# Altium footprint library LitVP-02.PcbLib: 16 footprints
Each footprint in its own frame and in the unit in brackets; x right, y up, seen from the top. Pads: shape width x height; smd on the part's side, far side on the other; paste and mask are expansions set on the pad; w line width, h text height; cw(c..) or ccw(c..) is an arc to the next point about the centre after c.
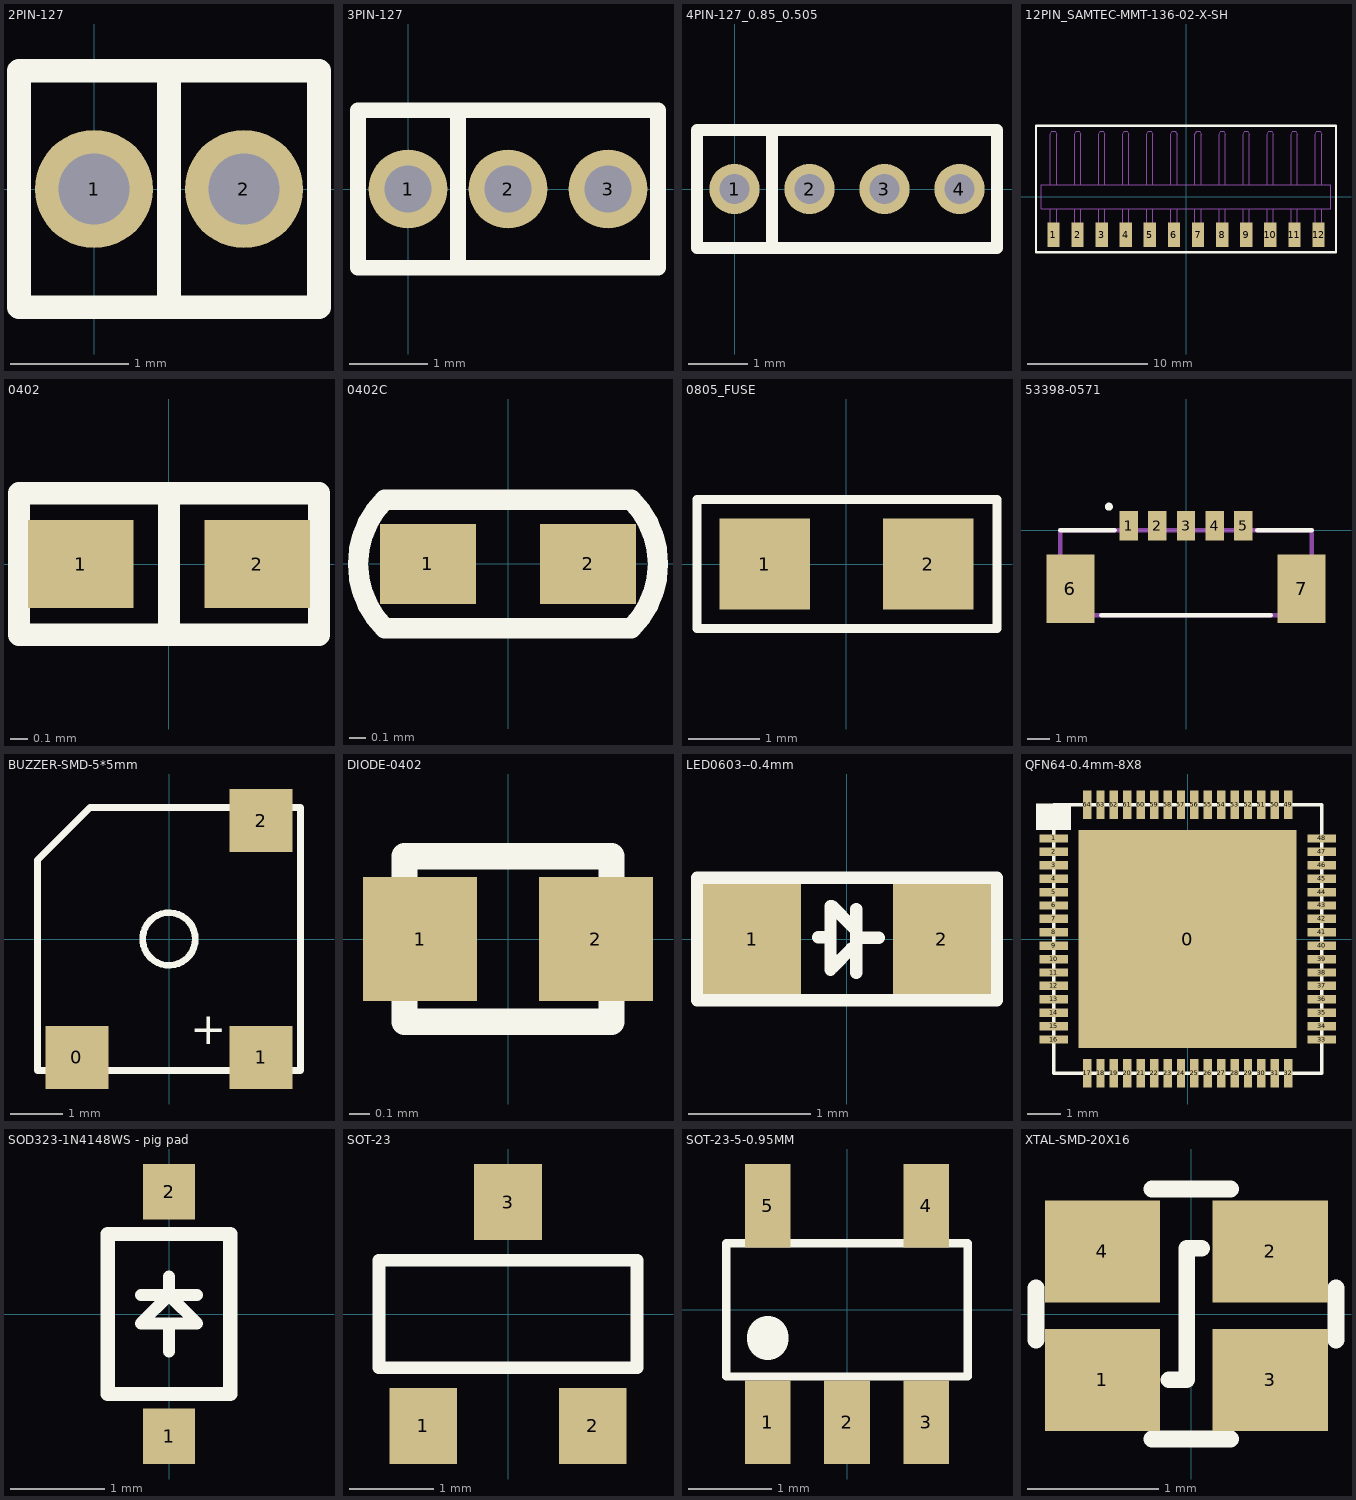
[diagram p0: the footprints below, top view; thin cyan lines are the x and y axes]

## 2PIN-127 [mm]
pads (2):
  round 1 hole 0.6: 1(0,0) 2(1.27,0)
Top Overlay:
  lines w0.2: 0.635,-1 0.635,1 ; -0.635,-1 1.905,-1 1.905,1 -0.635,1 -0.635,-1

## 3PIN-127 [mm]
pads (3):
  round 1 hole 0.6: 1(0,0) 2(1.27,0) 3(2.54,0)
Top Overlay:
  lines w0.2: 0.635,-1 0.635,1 ; -0.635,-1 -0.635,1 3.175,1 3.175,-1 -0.635,-1
3D body "BD022-02-A-A-0210-0210-L-D.stp": height 3.6, standoff -2.1, extent 0.635,-1.25 3.175,1.25
3D body "BD022-02-A-A-0210-0210-L-D.stp": height 3.6, standoff -2.1, extent -0.635,-1.25 1.905,1.25

## 4PIN-127_0.85_0.505 [mm]
pads (4):
  round 0.85 hole 0.505: 1(0,0) 2(1.27,0) 3(2.54,0) 4(3.81,0)
Top Overlay:
  lines w0.2: 0.635,-1 0.635,1 ; -0.635,-1 -0.635,1 4.445,1 4.445,-1 -0.635,-1
3D body "BD022-02-A-A-0210-0210-L-D.stp": height 3.6, standoff -2.1, extent -0.635,-1.25 1.905,1.25
3D body "BD022-02-A-A-0210-0210-L-D.stp": height 3.6, standoff -2.1, extent 1.905,-1.25 4.445,1.25

## 12PIN_SAMTEC-MMT-136-02-X-SH [mm]
pads (12):
  rect 1.02x2.03 smd: 1(-11,-3.159) 2(-9,-3.159) 3(-7,-3.159) 4(-5,-3.159) 5(-3,-3.159) 6(-1,-3.159) 7(1,-3.159) 8(3,-3.159) 9(5,-3.159) 10(7,-3.159) 11(9,-3.159) 12(11,-3.159)
Top Overlay:
  lines w0.2: -12.45,-4.625 12.45,-4.625 12.45,5.895 -12.45,5.895 -12.45,-4.625
Top Paste:
  rectangle: 10.49,-4.174 11.51,-2.144
  rectangle: 8.49,-4.174 9.51,-2.144
  rectangle: 6.49,-4.174 7.51,-2.144
  rectangle: 4.49,-4.174 5.51,-2.144
  rectangle: 2.49,-4.174 3.51,-2.144
  rectangle: 0.491,-4.174 1.511,-2.144
  rectangle: -1.509,-4.174 -0.489,-2.144
  rectangle: -3.51,-4.174 -2.49,-2.144
  rectangle: -5.51,-4.174 -4.49,-2.144
  rectangle: -7.51,-4.174 -6.49,-2.144
  rectangle: -9.51,-4.174 -8.49,-2.144
  rectangle: -11.51,-4.174 -10.49,-2.144
Top Solder:
  rectangle: 10.439,-4.225 11.561,-2.093
  rectangle: 8.439,-4.225 9.561,-2.093
  rectangle: 6.439,-4.225 7.561,-2.093
  rectangle: 4.439,-4.225 5.561,-2.093
  rectangle: 2.439,-4.225 3.561,-2.093
  rectangle: 0.44,-4.225 1.562,-2.093
  rectangle: -1.56,-4.225 -0.438,-2.093
  rectangle: -3.561,-4.225 -2.439,-2.093
  rectangle: -5.561,-4.225 -4.439,-2.093
  rectangle: -7.561,-4.225 -6.439,-2.093
  rectangle: -9.561,-4.225 -8.439,-2.093
  rectangle: -11.561,-4.225 -10.439,-2.093
Mechanical 16:
  lines w0.1: -11.254,-1 -11.254,-3.794 -10.746,-3.794 -10.746,-1 ; -11.254,1 -11.254,5.191 -11.127,5.445 -10.873,5.445 -10.746,5.191 -10.746,1 ; -9.254,-1 -9.254,-3.794 -8.746,-3.794 -8.746,-1 ; -9.254,1 -9.254,5.191 -9.127,5.445 -8.873,5.445 -8.746,5.191 -8.746,1 ; -7.254,-1 -7.254,-3.794 -6.746,-3.794 -6.746,-1 ; -7.254,1 -7.254,5.191 -7.127,5.445 -6.873,5.445 -6.746,5.191 -6.746,1 ; -5.254,-1 -5.254,-3.794 -4.746,-3.794 -4.746,-1 ; -5.254,1 -5.254,5.191 -5.127,5.445 -4.873,5.445 -4.746,5.191 -4.746,1 ; -3.254,-1 -3.254,-3.794 -2.746,-3.794 -2.746,-1 ; -3.254,1 -3.254,5.191 -3.127,5.445 -2.873,5.445 -2.746,5.191 -2.746,1 ; -1.254,-1 -1.254,-3.794 -0.746,-3.794 -0.746,-1 ; -1.254,1 -1.254,5.191 -1.127,5.445 -0.873,5.445 -0.746,5.191 -0.746,1 ; 0.746,-1 0.746,-3.794 1.254,-3.794 1.254,-1 ; 0.746,1 0.746,5.191 0.873,5.445 1.127,5.445 1.254,5.191 1.254,1 ; 2.746,-1 2.746,-3.794 3.254,-3.794 3.254,-1 ; 2.746,1 2.746,5.191 2.873,5.445 3.127,5.445 3.254,5.191 3.254,1 ; 4.746,-1 4.746,-3.794 5.254,-3.794 5.254,-1 ; 4.746,1 4.746,5.191 4.873,5.445 5.127,5.445 5.254,5.191 5.254,1 ; 6.746,-1 6.746,-3.794 7.254,-3.794 7.254,-1 ; 6.746,1 6.746,5.191 6.873,5.445 7.127,5.445 7.254,5.191 7.254,1 ; 8.746,-1 8.746,-3.794 9.254,-3.794 9.254,-1 ; 8.746,1 8.746,5.191 8.873,5.445 9.127,5.445 9.254,5.191 9.254,1 ; 10.746,-1 10.746,-3.794 11.254,-3.794 11.254,-1 ; 10.746,1 10.746,5.191 10.873,5.445 11.127,5.445 11.254,5.191 11.254,1 ; 10,-1 12,-1 ; 10,-1 12,-1 ; 10,-1 8,-1 6,-1 4,-1 2,-1 0,-1 -2,-1 -4,-1 -6,-1 -8,-1 -10,-1 -12,-1 -12,1 -10,1 -8,1 -6,1 -4,1 -2,1 0,1 2,1 4,1 6,1 8,1 10,1 ; 10,1 12,1 ; 10,1 12,1 ; 12,-1 12,1
  text "1" at -6.49,-7.862 h0.6
3D body "pin_header_a-sl200-ea-g02mp1.stp": height 2, standoff 0, extent 7.999,-4.019 11.999,4.781
3D body "pin_header_a-sl200-ea-g02mp1.stp": height 2, standoff 0, extent 3.999,-4.019 7.999,4.781
3D body "pin_header_a-sl200-ea-g02mp1.stp": height 2, standoff 0, extent -0.001,-4.019 3.999,4.781
3D body "pin_header_a-sl200-ea-g02mp1.stp": height 2, standoff 0, extent -4.001,-4.019 -0.001,4.781
3D body "pin_header_a-sl200-ea-g02mp1.stp": height 2, standoff 0, extent -8.001,-4.019 -4.001,4.781
3D body "pin_header_a-sl200-ea-g02mp1.stp": height 2, standoff 0, extent -12.001,-4.019 -8.001,4.781

## 0402 [mm]
pads (2):
  rect 0.6x0.5 smd: 1(-0.5,0) 2(0.5,0)
Top Overlay:
  lines w0.127: 0,-0.4 0,0.4 ; -0.85,-0.4 0.85,-0.4 0.85,0.4 -0.85,0.4 -0.85,-0.4
3D body "User Library-d0402h025.STEP": height 0.25, standoff 0, extent -0.5,-0.25 0.5,0.25

## 0402C [mm]
pads (2):
  rect 0.6x0.5 smd: 1(-0.5,0) 2(0.5,0)
Top Overlay:
  lines w0.127: -0.77,-0.4 cw(c-0.37,0) -0.77,0.4 0.77,0.4 cw(c0.37,0) 0.77,-0.4 -0.77,-0.4
3D body "c0402c689c5gactu.stp": height 0.58, standoff 0.03, extent -0.525,-0.275 0.525,0.275

## 0805_FUSE [mil]
pads (2):
  rect 50x50 smd: 1(-45,0) 2(45,0)
Top Overlay:
  lines w5: -82.4,-35.43 -82.4,35.43 82.95,35.43 82.95,-35.43 -82.4,-35.43
3D body "mf-psmf050x-2.stp": height 26.18, standoff 0, extent -42.05,-26.58 42.6,26.57

## 53398-0571 [mm]
pads (7):
  rect 0.8x1.3 smd: 1(-2.5,0.2) 2(-1.25,0.2) 3(0,0.2) 4(1.25,0.2) 5(2.5,0.2)
  rect 2.1x3 smd: 6(-5.05,-2.55) 7(5.05,-2.55)
Top Overlay:
  circle w0.2: c-3.366,1.031 r0.077
  lines w0.2: -5.5,0 -3.122,0 ; -3.7,-3.7 3.7,-3.7 ; 3.111,0 5.5,0
Mechanical 13:
  lines w0.2: -5.5,-3.7 5.5,-3.7 5.5,0 -5.5,0 -5.5,-3.7
3D body "53398-0571.stp": height 4.74, standoff 0, extent -5.7,-3.71 5.7,0.49

## BUZZER-SMD-5*5mm [mm] "BUZZER-SMD-5*5mm"
pads (3):
  rect 1.2x1.2 smd: 0(-1.75,-2.25) 1(1.75,-2.25) 2(1.75,2.25)
Top Overlay:
  circle w0.127: c0,0 r0.5
  lines w0.127: -2.5,-2.5 -2.5,1.5 -1.5,2.5 2.5,2.5 2.5,-2.5 -2.5,-2.5
  text "+" at 0.4,-2 h0.6

## DIODE-0402 [mm] "DIODE-0402"
pads (2):
  rect 0.55x0.6 smd mask+0.05: 1(-0.425,0) 2(0.425,0)
Top Overlay:
  lines w0.127: -0.5,-0.4 0.5,-0.4 0.5,0.4 -0.5,0.4 -0.5,-0.4
3D body "User Library-CDBZ0130L-HF.STEP": height 0.3, standoff -0.01, extent -0.31,-0.16 0.31,0.16

## LED0603--0.4mm [mm] "LED0603--0.4mm"
pads (2):
  rect 0.8x0.9 smd: 1(-0.775,0) 2(0.775,0)
Top Overlay:
  lines w0.1: -0.235,0.015 -0.16,0.015 ; -0.135,-0.251 -0.135,0.269 ; -0.124,0.269 0.045,0.1 ; -0.121,-0.236 0.035,-0.08 ; 0.075,-0.275 0.075,0.245 ; 0.08,0.01 0.26,0.01 ; -1.225,-0.5 1.225,-0.5 1.225,0.5 -1.225,0.5 -1.225,-0.5

## QFN64-0.4mm-8X8 [mm] "QFN64-0.4mm-8X8"
pads (65):
  rect 6.5x6.5 smd: 0(0,0)
  rect 0.85x0.25 smd: 1(-4,3) 2(-4,2.6) 3(-4,2.2) 4(-4,1.8) 5(-4,1.4) 6(-4,1) 7(-4,0.6) 8(-4,0.2) 9(-4,-0.2) 10(-4,-0.6) 11(-4,-1) 12(-4,-1.4) 13(-4,-1.8) 14(-4,-2.2) 15(-4,-2.6) 16(-4,-3) 33(4,-3) 34(4,-2.6) 35(4,-2.2) 36(4,-1.8) 37(4,-1.4) 38(4,-1) 39(4,-0.6) 40(4,-0.2) 41(4,0.2) 42(4,0.6) 43(4,1) 44(4,1.4) 45(4,1.8) 46(4,2.2) 47(4,2.6) 48(4,3)
  rect 0.25x0.85 smd: 17(-3,-4) 18(-2.6,-4) 19(-2.2,-4) 20(-1.8,-4) 21(-1.4,-4) 22(-1,-4) 23(-0.6,-4) 24(-0.2,-4) 25(0.2,-4) 26(0.6,-4) 27(1,-4) 28(1.4,-4) 29(1.8,-4) 30(2.2,-4) 31(2.6,-4) 32(3,-4) 49(3,4) 50(2.6,4) 51(2.2,4) 52(1.8,4) 53(1.4,4) 54(1,4) 55(0.6,4) 56(0.2,4) 57(-0.2,4) 58(-0.6,4) 59(-1,4) 60(-1.4,4) 61(-1.8,4) 62(-2.2,4) 63(-2.6,4) 64(-3,4)
Top Overlay:
  rectangle: -4.525,3.25 -3.475,4.05
  lines w0.1: -4,-4 -4,4 4,4 4,-4 -4,-4
3D body "User Library-QFN64_8x8.sldprt": height 0.81, standoff 0, extent -4,-4 4,4

## SOD323-1N4148WS - pig pad [mm] "SOD323-1N4148WS"
pads (2):
  rect 0.55x0.59 smd: 1(0,-1.3) 2(0,1.3)
Top Overlay:
  lines w0.127: -0.3,0.2 0.3,0.2 ; 0,-0.4 0,-0.1 ; 0,0.4 0,0.2 ; 0,0.2 0.3,-0.1 -0.3,-0.1 0,0.2
  lines w0.152: -0.65,-0.85 0.65,-0.85 0.65,0.85 -0.65,0.85 -0.65,-0.85
3D body "User Library-SOD323F-1.sldprt": height 1, standoff 0, extent -0.675,-1.25 0.675,1.25

## SOT-23 [mm] "SOT-23"
pads (3):
  rect 0.8x0.9 smd: 1(-1,-1.321) 2(1,-1.321) 3(0,1.321)
Top Overlay:
  lines w0.152: -1.524,-0.635 -1.524,0.635 1.524,0.635 1.524,-0.635 -1.524,-0.635
3D body "ALSRobot-SOT23.sldprt": height 1.08, standoff 0, extent -1.5,-1.32 1.5,1.32

## SOT-23-5-0.95MM [mm] "SOT-23-5-0.95MM"
pads (5):
  rect 0.55x1 smd: 1(-0.95,-1.35) 2(0,-1.35) 3(0.95,-1.35) 4(0.95,1.25) 5(-0.95,1.25)
Top Overlay:
  lines w0.1: -1.45,-0.8 1.45,-0.8 1.45,0.8 -1.45,0.8 -1.45,-0.8
  lines w0.5: -0.95,-0.35 -0.95,-0.325
3D body "CircuitWorks-SOT-23-5.sldprt": height 1.1, standoff 0, extent -1.5,-1.25 1.5,1.25

## XTAL-SMD-20X16 [mm] "XTAL-SMD-20X16"
pads (4):
  rect 0.875x0.775 smd: 1(-0.675,-0.5) 2(0.6,0.475) 3(0.6,-0.5) 4(-0.675,0.475)
Top Overlay:
  lines w0.127: -1.18,-0.2 -1.18,0.2 ; -0.3,-0.95 0.3,-0.95 ; -0.3,0.95 0.3,0.95 ; -0.17,-0.5 -0.035,-0.5 -0.035,0.5 0.08,0.5 ; 1.1,-0.2 1.1,0.2
3D body "User Library-GeyerElectronics_KX5.sldprt": height 0.56, standoff 0, extent -1.085,-0.85 1.015,0.85